# Altium footprint library LT8650SEV_PBF.PcbLib: 2 footprints
Each footprint in its own frame and in the unit in brackets; x right, y up, seen from the top. Pads: shape width x height; smd on the part's side, far side on the other; paste and mask are expansions set on the pad; w line width, h text height; cw(c..) or ccw(c..) is an arc to the next point about the centre after c.
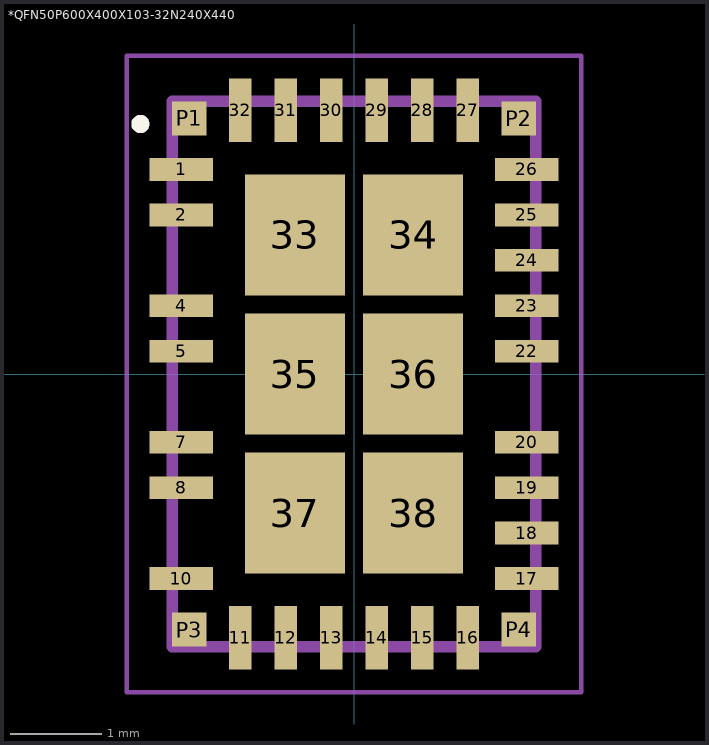
[diagram p0: the footprints below, top view; thin cyan lines are the x and y axes]

## *QFN50P600X400X103-32N240X440 [mm]
pads (38):
  rect 0.7x0.25 smd: 1(-1.9,2.25) 2(-1.9,1.75) 4(-1.9,0.75) 5(-1.9,0.25) 7(-1.9,-0.75) 8(-1.9,-1.25) 10(-1.9,-2.25) 17(1.9,-2.25) 18(1.9,-1.75) 19(1.9,-1.25) 20(1.9,-0.75) 22(1.9,0.25) 23(1.9,0.75) 24(1.9,1.25) 25(1.9,1.75) 26(1.9,2.25)
  rect 0.25x0.7 smd: 11(-1.25,-2.9) 12(-0.75,-2.9) 13(-0.25,-2.9) 14(0.25,-2.9) 15(0.75,-2.9) 16(1.25,-2.9) 27(1.25,2.9) 28(0.75,2.9) 29(0.25,2.9) 30(-0.25,2.9) 31(-0.75,2.9) 32(-1.25,2.9)
  rect 1.1x1.33 smd: 33(-0.65,1.53) 34(0.65,1.53) 35(-0.65,0) 36(0.65,0) 37(-0.65,-1.53) 38(0.65,-1.53)
  rect 0.375x0.375 smd: P1(-1.813,2.812) P2(1.813,2.812) P3(-1.813,-2.812) P4(1.813,-2.812)
Top Overlay:
  circle w0.1: c-2.35,2.75 r0.05
Top Paste:
  region: 0.3,-1.105 1,-1.105 1,-1.957 0.3,-1.957
  region: 0.301,1.955 1,1.955 1,1.107 0.301,1.107
  region: 0.3,0.425 1,0.425 1,-0.425 0.3,-0.425
  region: -1.002,-1.105 -0.3,-1.105 -0.3,-1.959 -1.002,-1.959
  region: -1.002,1.955 -0.3,1.955 -0.3,1.107 -1.002,1.107
  region: -1.001,0.425 -0.3,0.425 -0.3,-0.426 -1.001,-0.426
Mechanical 4:
  lines w0.127: -2,-3 -2,3 ; -2,-3 2,-3 ; -2,-3 -2,3 ; -2,-3 2,-3 ; -2,3 2,3 ; -2,3 2,3 ; 2,-3 2,3 ; 2,-3 2,3
Mechanical 16:
  lines w0.05: -2.5,-3.5 -2.5,3.5 2.5,3.5 2.5,-3.5 -2.5,-3.5

## PCBComponent_1 [mm]